# Altium schematic symbol library BAL-NRF02D3.SchLib: 1 symbol
Pins are listed as number, name and electrical type; pins without a type are passive.

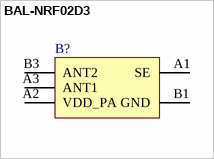
[diagram p0: symbol BAL-NRF02D3]

## BAL-NRF02D3
designator B?
pins: A1 SE, A2 VDD_PA, A3 ANT1, B1 GND, B3 ANT2